# Altium footprint library AD9172+K71.PcbLib: 46 footprints (part 3 of 3)
Each footprint in its own frame and in the unit in brackets; x right, y up, seen from the top. Pads: shape width x height; smd on the part's side, far side on the other; paste and mask are expansions set on the pad; w line width, h text height; cw(c..) or ccw(c..) is an arc to the next point about the centre after c.
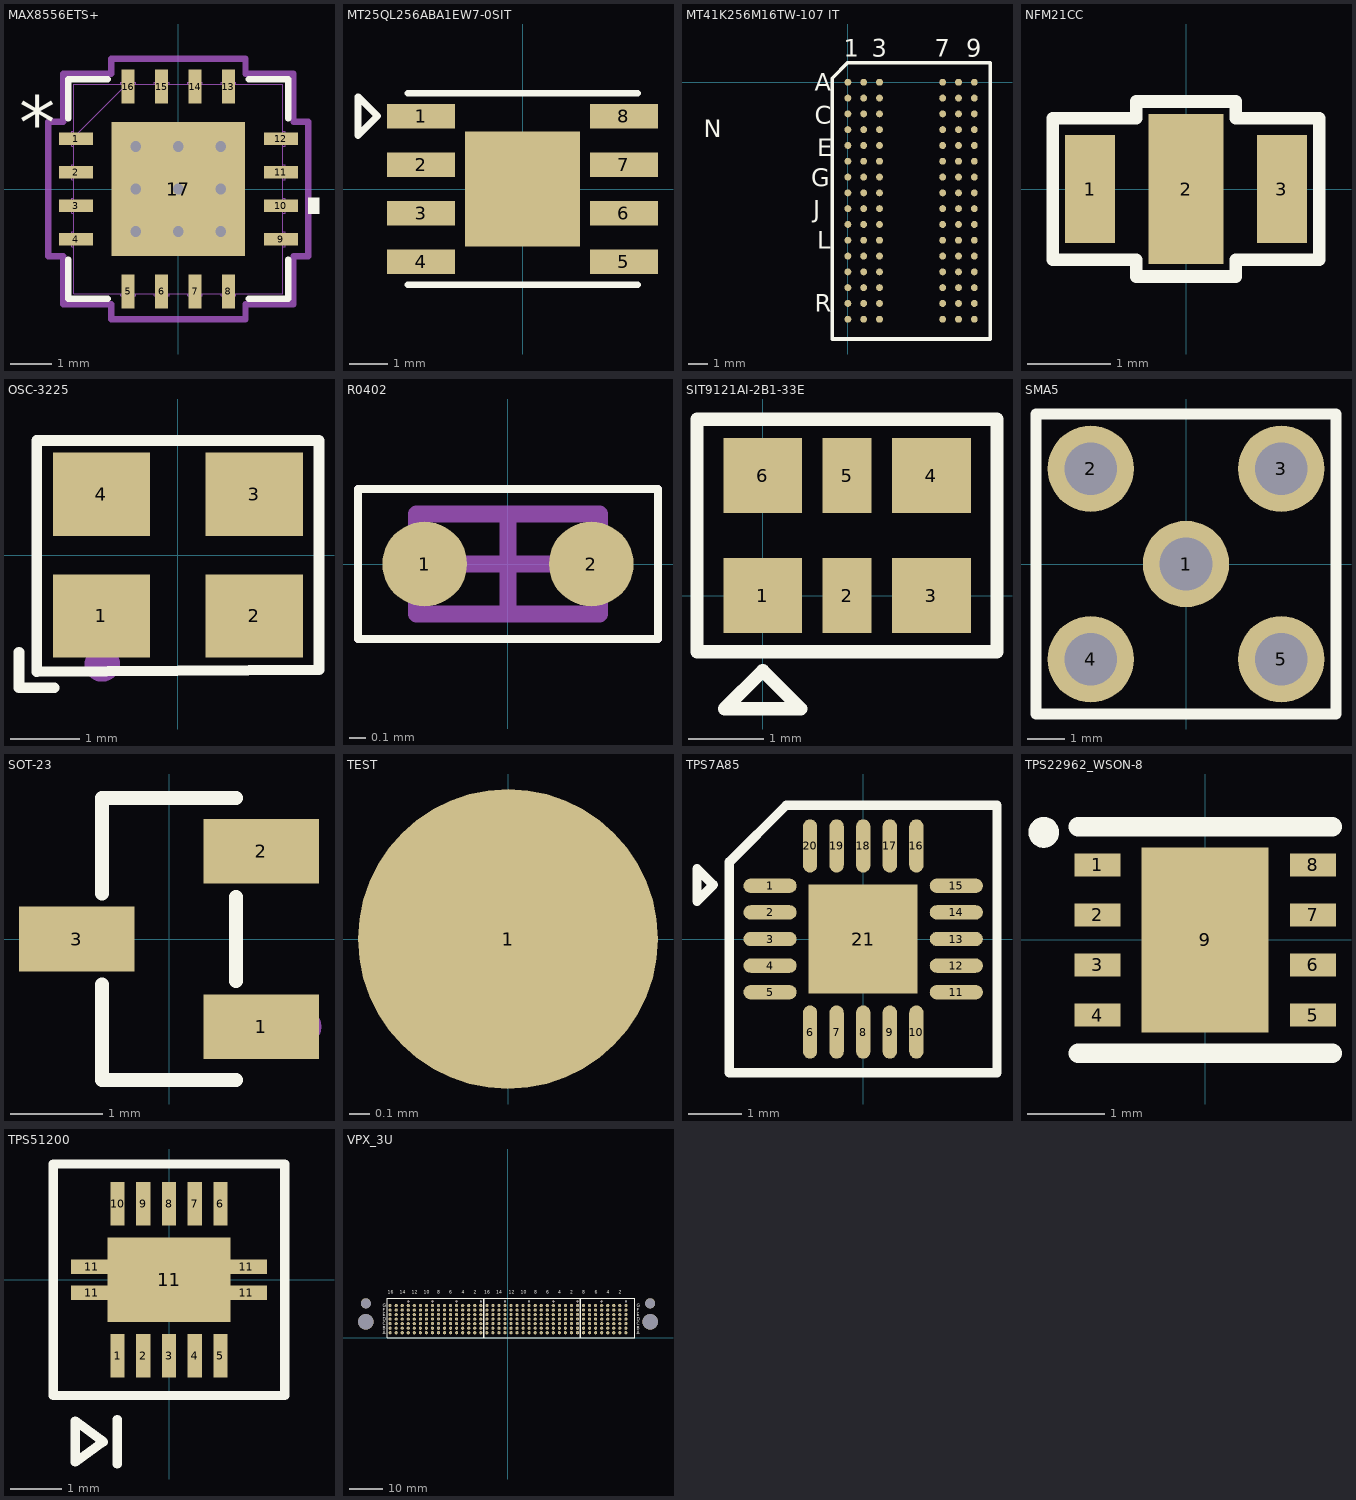
[diagram p2: the footprints below, top view; thin cyan lines are the x and y axes]

## MAX8556ETS+ [mil]
pads (17):
  rect 32x12 smd paste+0 mask+0: 1(-96.5,47.24) 2(-96.5,15.75) 3(-96.5,-15.75) 4(-96.5,-47.24) 9(96.5,-47.24) 10(96.5,-15.75) 11(96.5,15.75) 12(96.5,47.24)
  rect 12x32 smd paste+0 mask+0: 5(-47.24,-96.5) 6(-15.75,-96.5) 7(15.75,-96.5) 8(47.24,-96.5) 13(47.24,96.5) 14(15.75,96.5) 15(-15.75,96.5) 16(-47.24,96.5)
  rect 126x126 smd paste-62.5 mask+0: 17(0,0)
via 0,0 diameter 18 hole 10
via 0,40 diameter 18 hole 10
via 0,-40 diameter 18 hole 10
via -40,0 diameter 18 hole 10
via 40,40 diameter 18 hole 10
via -40,40 diameter 18 hole 10
via -40,-40 diameter 18 hole 10
via 40,-40 diameter 18 hole 10
via 40,0 diameter 18 hole 10
Top Overlay:
  region: 122.5,-8.25 132.5,-8.25 132.5,-23.25 122.5,-23.25
  lines w6: -103.5,-66.34 -103.5,-103.5 -66.34,-103.5 ; -103.5,66.34 -103.5,103.5 -66.34,103.5 ; 66.34,-103.5 103.5,-103.5 103.5,-66.34 ; 66.34,103.5 103.5,103.5 103.5,66.34
  text "*" at -150,37.99 h50
Top Paste:
  region: -3.94,59.06 -59.06,59.06 -59.06,3.94 -3.94,3.94
  region: -3.94,-3.94 -59.06,-3.94 -59.06,-59.06 -3.94,-59.06
  region: 59.06,59.06 3.94,59.06 3.94,3.94 59.06,3.94
  region: 59.06,-3.94 3.94,-3.94 3.94,-59.06 59.06,-59.06
Mechanical 13:
  lines w1: -98.5,48.5 -48.5,98.5 ; -100.5,-54.24 -100.5,-40.24 -98.5,-40.24 -98.5,-54.24 -100.5,-54.24 ; -100.5,-22.75 -100.5,-8.75 -98.5,-8.75 -98.5,-22.75 -100.5,-22.75 ; -100.5,8.75 -100.5,22.75 -98.5,22.75 -98.5,8.75 -100.5,8.75 ; -100.5,40.24 -100.5,54.24 -98.5,54.24 -98.5,40.24 -100.5,40.24 ; -98.5,-98.5 98.5,-98.5 98.5,98.5 -98.5,98.5 -98.5,-98.5 ; -54.24,-100.5 -54.24,-98.5 -40.24,-98.5 -40.24,-100.5 -54.24,-100.5 ; -54.24,98.5 -40.24,98.5 -40.24,100.5 -54.24,100.5 -54.24,98.5 ; -22.75,-100.5 -22.75,-98.5 -8.75,-98.5 -8.75,-100.5 -22.75,-100.5 ; -22.75,98.5 -8.75,98.5 -8.75,100.5 -22.75,100.5 -22.75,98.5 ; 8.75,-100.5 8.75,-98.5 22.75,-98.5 22.75,-100.5 8.75,-100.5 ; 8.75,98.5 22.75,98.5 22.75,100.5 8.75,100.5 8.75,98.5 ; 40.24,-100.5 40.24,-98.5 54.24,-98.5 54.24,-100.5 40.24,-100.5 ; 40.24,98.5 54.24,98.5 54.24,100.5 40.24,100.5 40.24,98.5 ; 98.5,-54.24 98.5,-40.24 100.5,-40.24 100.5,-54.24 98.5,-54.24 ; 98.5,-22.75 98.5,-8.75 100.5,-8.75 100.5,-22.75 98.5,-22.75 ; 98.5,8.75 98.5,22.75 100.5,22.75 100.5,8.75 98.5,8.75 ; 98.5,40.24 98.5,54.24 100.5,54.24 100.5,40.24 98.5,40.24
  text "*" at -93,37.99 h50
Mechanical 15:
  lines w6: -122.5,-63.24 -108.5,-63.24 -108.5,-108.5 -63.24,-108.5 -63.24,-122.5 63.24,-122.5 63.24,-108.5 108.5,-108.5 108.5,-63.24 122.5,-63.24 122.5,63.24 108.5,63.24 108.5,108.5 63.24,108.5 63.24,122.5 -63.24,122.5 -63.24,108.5 -108.5,108.5 -108.5,63.24 -122.5,63.24 -122.5,-63.24
3D body "21-0140_T1655+3_MXM.step": height 32.09, standoff 0, extent -100.51,-100.51 100.51,100.51

## MT25QL256ABA1EW7-0SIT [mm]
pads (9):
  rect 1.778x0.635 smd: 1(-2.65,1.905) 2(-2.65,0.635) 3(-2.65,-0.635) 4(-2.65,-1.905) 5(2.65,-1.905) 6(2.65,-0.635) 7(2.65,0.635) 8(2.65,1.905)
  rect 3x3 smd: ""(0,0)
Top Overlay:
  lines w0.178: -3,-2.5 3,-2.5 ; -3,2.5 3,2.5 ; -4.301,1.397 -3.793,1.905 -4.301,2.413 -4.301,1.397

## MT41K256M16TW-107 IT [mm]
pads (96):
  round 0.35 smd: A1(0,0) A2(0.8,0) A3(1.6,0) A7(4.8,0) A8(5.6,0) A9(6.4,0) B1(0,-0.8) B2(0.8,-0.8) B3(1.6,-0.8) B7(4.8,-0.8) B8(5.6,-0.8) B9(6.4,-0.8) C1(0,-1.6) C2(0.8,-1.6) C3(1.6,-1.6) C7(4.8,-1.6) C8(5.6,-1.6) C9(6.4,-1.6) D1(0,-2.4) D2(0.8,-2.4) D3(1.6,-2.4) D7(4.8,-2.4) D8(5.6,-2.4) D9(6.4,-2.4) E1(0,-3.2) E2(0.8,-3.2) E3(1.6,-3.2) E7(4.8,-3.2) E8(5.6,-3.2) E9(6.4,-3.2) F1(0,-4) F2(0.8,-4) F3(1.6,-4) F7(4.8,-4) F8(5.6,-4) F9(6.4,-4) G1(0,-4.8) G2(0.8,-4.8) G3(1.6,-4.8) G7(4.8,-4.8) G8(5.6,-4.8) G9(6.4,-4.8) H1(0,-5.6) H2(0.8,-5.6) H3(1.6,-5.6) H7(4.8,-5.6) H8(5.6,-5.6) H9(6.4,-5.6) J1(0,-6.4) J2(0.8,-6.4) J3(1.6,-6.4) J7(4.8,-6.4) J8(5.6,-6.4) J9(6.4,-6.4) K1(0,-7.2) K2(0.8,-7.2) K3(1.6,-7.2) K7(4.8,-7.2) K8(5.6,-7.2) K9(6.4,-7.2) L1(0,-8) L2(0.8,-8) L3(1.6,-8) L7(4.8,-8) L8(5.6,-8) L9(6.4,-8) M1(0,-8.8) M2(0.8,-8.8) M3(1.6,-8.8) M7(4.8,-8.8) M8(5.6,-8.8) M9(6.4,-8.8) N1(0,-9.6) N2(0.8,-9.6) N3(1.6,-9.6) N7(4.8,-9.6) N8(5.6,-9.6) N9(6.4,-9.6) P1(0,-10.4) P2(0.8,-10.4) P3(1.6,-10.4) P7(4.8,-10.4) P8(5.6,-10.4) P9(6.4,-10.4) R1(0,-11.2) R2(0.8,-11.2) R3(1.6,-11.2) R7(4.8,-11.2) R8(5.6,-11.2) R9(6.4,-11.2) T1(0,-12) T2(0.8,-12) T3(1.6,-12) T7(4.8,-12) T8(5.6,-12) T9(6.4,-12)
Top Overlay:
  lines w0.178: -0.8,-13 -0.8,0.2 0,1 7.2,1 7.2,-13 -0.8,-13
  text "7" at 4.4,1.302 h0.89
  text "3" at 1.2,1.302 h0.89
  text "C" at -1.685,-2.09 h0.89
  text "E" at -1.558,-3.741 h0.89
  text "G" at -1.854,-5.263 h0.89
  text "J" at -1.748,-6.863 h0.89
  text "L" at -1.558,-8.44 h0.89
  text "N" at -7.29,-2.793 h0.89
  text "R" at -1.685,-11.615 h0.89
  text "A" at -1.685,-0.439 h0.89
  text "9" at 6,1.302 h0.89
  text "1" at -0.204,1.302 h0.89

## NFM21CC [mm] "NFM21CC"
pads (3):
  rect 0.6x1.3 smd: 1(-1.15,0) 3(1.15,0)
  rect 0.9x1.8 smd: 2(0,0)
Top Overlay:
  lines w0.15: -1.6,-0.85 -1.6,0.85 -0.6,0.85 -0.6,1.05 0.6,1.05 0.6,0.85 1.6,0.85 1.6,-0.85 0.6,-0.85 0.6,-1.05 -0.6,-1.05 -0.6,-0.85 -1.6,-0.85
Mechanical 20:
  text "NFM21PC225B0J3" at -0.5,1.53 h0.25

## OSC-3225 [mm]
pads (4):
  rect 1.4x1.2 smd: 1(-1.1,-0.875) 2(1.1,-0.875) 3(1.1,0.875) 4(-1.1,0.875)
Top Overlay:
  lines w0.152: -2.286,-1.397 -2.286,-1.905 -1.778,-1.905 ; -2.029,-1.679 2.032,-1.651 2.032,0 2.032,1.651 -2.029,1.651 -2.029,-1.679
Mechanical 15:
  circle w0.254: c-1.088,-1.567 r0.127
  region: -1.738,-0.536 -1.702,-0.536 -1.702,-0.608 -1.738,-0.608
  region: -1.702,-0.536 -1.666,-0.536 -1.666,-0.608 -1.702,-0.608
  region: -1.666,-0.5 -1.63,-0.5 -1.63,-0.608 -1.666,-0.608
  region: -1.63,-0.464 -1.594,-0.464 -1.594,-0.572 -1.63,-0.572
  region: -1.594,-0.464 -1.558,-0.464 -1.558,-1.004 -1.594,-1.004
  region: -1.558,-0.428 -1.522,-0.428 -1.522,-1.004 -1.558,-1.004
  region: -1.522,-0.428 -1.486,-0.428 -1.486,-1.004 -1.522,-1.004
  region: -1.486,-0.428 -1.45,-0.428 -1.45,-1.004 -1.486,-1.004

## R0402 [mil]
height 11.81
pads (2):
  round 20 smd: 1(-19.68,0) 2(19.68,0)
Top Overlay:
  lines w1.97: -35.43,-17.72 -35.43,17.72 35.43,17.72 35.43,-17.72 -35.43,-17.72
Mechanical 13:
  lines w3.94: -21.65,-11.81 21.65,-11.81 21.65,11.81 -21.65,11.81 -21.65,-11.81
Mechanical 15:
  lines w1.97: -35.43,-17.72 -35.43,17.72 35.43,17.72 35.43,-17.72 -35.43,-17.72
  lines w3.94: -9.84,0 9.84,0 ; 0,-9.84 0,9.84
3D body "R0402.STEP": height 13.78, standoff 0, extent -19.68,-9.84 19.69,9.85

## SIT9121AI-2B1-33E [mm]
pads (6):
  rect 1.05x1 smd: 1(0,0) 3(2.25,0) 4(2.25,1.6) 6(0,1.6)
  rect 0.65x1 smd: 2(1.125,0) 5(1.125,1.6)
Top Overlay:
  lines w0.178: -0.875,-0.75 -0.875,2.35 3.125,2.35 3.125,-0.75 -0.875,-0.75 ; -0.508,-1.508 0,-1 0.508,-1.508 -0.508,-1.508

## SMA5 [mm]
pads (5):
  round 2.3 hole 1.4: 1(0,0) 2(-2.54,2.54) 3(2.54,2.54) 4(-2.54,-2.54) 5(2.54,-2.54)
Top Overlay:
  lines w0.305: -4,-4 -4,4 4,4 4,-4 -4,-4

## SOT-23 [mm]
pads (3):
  rect 1.25x0.7 smd mask+0.051: 1(1,-0.95) 2(1,0.95) 3(-1,0)
Top Overlay:
  lines w0.152: -0.726,-0.495 -0.726,-1.526 0.726,-1.526 ; -0.726,0.495 -0.726,1.526 0.726,1.526 ; 0.726,-0.455 0.726,0.455
Mechanical 6:
  circle w0.2: c1.45,-0.95 r0.1

## TEST [mm]
pads (1):
  round 1.5 smd: 1(0,0)

## TPS7A85 [mm]
pads (21):
  oval 1x0.27 smd: 1(-1.75,1) 2(-1.75,0.5) 3(-1.75,0) 4(-1.75,-0.5) 5(-1.75,-1) 11(1.75,-1) 12(1.75,-0.5) 13(1.75,0) 14(1.75,0.5) 15(1.75,1)
  oval 0.27x1 smd: 6(-1,-1.75) 7(-0.5,-1.75) 8(0,-1.75) 9(0.5,-1.75) 10(1,-1.75) 16(1,1.75) 17(0.5,1.75) 18(0,1.75) 19(-0.5,1.75) 20(-1,1.75)
  rect 2.05x2.05 smd: 21(0,0)
Top Overlay:
  lines w0.178: -3.124,0.711 -2.819,1.016 -3.124,1.321 -3.124,0.711 ; -2.515,-2.515 2.515,-2.515 2.515,2.515 -1.448,2.515 -2.515,1.448 -2.515,-2.515

## TPS22962_WSON-8 [mm]
pads (9):
  rect 0.6x0.3 smd: 1(-1.4,0.975) 2(-1.4,0.325) 3(-1.4,-0.325) 4(-1.4,-0.975) 5(1.4,-0.975) 6(1.4,-0.325) 7(1.4,0.325) 8(1.4,0.975)
  rect 1.65x2.4 smd: 9(0,0)
Top Overlay:
  lines w0.2: -1.999,1.397 cw(c-2.099,1.398) -1.999,1.4
  lines w0.254: -1.651,-1.473 1.649,-1.473 ; -1.649,1.473 1.651,1.473

## TPS51200 [mm]
pads (15):
  rect 0.279x0.85 smd: 1(-1,-1.475) 2(-0.5,-1.475) 3(0,-1.475) 4(0.5,-1.475) 5(1,-1.475) 6(1,1.475) 7(0.5,1.475) 8(0,1.475) 9(-0.5,1.475) 10(-1,1.475)
  rect 0.8x0.28 smd: 11(-1.5,-0.25) 11(-1.5,0.25) 11(1.5,-0.25) 11(1.5,0.25)
  rect 2.4x1.65 smd: 11(0,0)
Top Overlay:
  lines w0.178: -1.007,-3.58 -1.007,-2.717 ; -2.25,-2.25 -2.25,2.25 2.25,2.25 2.25,-2.25 -2.25,-2.25 ; -1.821,-3.543 -1.821,-2.743 -1.275,-3.151 -1.821,-3.543

## VPX_3U [mm]
pads (294):
  round 0.95 hole 0.45: P0_A1(35.1,1.5) P0_A2(33.3,1.5) P0_A3(31.5,1.5) P0_A4(29.7,1.5) P0_A5(27.9,1.5) P0_A6(26.1,1.5) P0_A7(24.3,1.5) P0_A8(22.5,1.5) P0_B1(35.1,2.85) P0_B2(33.3,2.85) P0_B3(31.5,2.85) P0_B4(29.7,2.85) P0_B5(27.9,2.85) P0_B6(26.1,2.85) P0_B7(24.3,2.85) P0_B8(22.5,2.85) P0_C1(35.1,4.2) P0_C2(33.3,4.2) P0_C3(31.5,4.2) P0_C4(29.7,4.2) P0_C5(27.9,4.2) P0_C6(26.1,4.2) P0_C7(24.3,4.2) P0_C8(22.5,4.2) P0_D1(35.1,5.55) P0_D2(33.3,5.55) P0_D3(31.5,5.55) P0_D4(29.7,5.55) P0_D5(27.9,5.55) P0_D6(26.1,5.55) P0_D7(24.3,5.55) P0_D8(22.5,5.55) P0_E1(35.1,6.9) P0_E2(33.3,6.9) P0_E3(31.5,6.9) P0_E4(29.7,6.9) P0_E5(27.9,6.9) P0_E6(26.1,6.9) P0_E7(24.3,6.9) P0_E8(22.5,6.9) P0_F1(35.1,8.25) P0_F2(33.3,8.25) P0_F3(31.5,8.25) P0_F4(29.7,8.25) P0_F5(27.9,8.25) P0_F6(26.1,8.25) P0_F7(24.3,8.25) P0_F8(22.5,8.25) P0_G1(35.1,9.6) P0_G2(33.3,9.6) P0_G3(31.5,9.6) P0_G4(29.7,9.6) P0_G5(27.9,9.6) P0_G6(26.1,9.6) P0_G7(24.3,9.6) P0_G8(22.5,9.6) P1_A1(20.7,1.5) P1_A2(18.9,1.5) P1_A3(17.1,1.5) P1_A4(15.3,1.5) P1_A5(13.5,1.5) P1_A6(11.7,1.5) P1_A7(9.9,1.5) P1_A8(8.1,1.5) P1_A9(6.3,1.5) P1_A10(4.5,1.5) P1_A11(2.7,1.5) P1_A12(0.9,1.5) P1_A13(-0.9,1.5) P1_A14(-2.7,1.5) P1_A15(-4.5,1.5) P1_A16(-6.3,1.5) P1_B1(20.7,2.85) P1_B2(18.9,2.85) P1_B3(17.1,2.85) P1_B4(15.3,2.85) P1_B5(13.5,2.85) P1_B6(11.7,2.85) P1_B7(9.9,2.85) P1_B8(8.1,2.85) P1_B9(6.3,2.85) P1_B10(4.5,2.85) P1_B11(2.7,2.85) P1_B12(0.9,2.85) P1_B13(-0.9,2.85) P1_B14(-2.7,2.85) P1_B15(-4.5,2.85) P1_B16(-6.3,2.85) P1_C1(20.7,4.2) P1_C2(18.9,4.2) P1_C3(17.1,4.2) P1_C4(15.3,4.2) P1_C5(13.5,4.2) P1_C6(11.7,4.2) P1_C7(9.9,4.2) P1_C8(8.1,4.2) P1_C9(6.3,4.2) P1_C10(4.5,4.2) P1_C11(2.7,4.2) P1_C12(0.9,4.2) P1_C13(-0.9,4.2) P1_C14(-2.7,4.2) P1_C15(-4.5,4.2) P1_C16(-6.3,4.2) P1_D1(20.7,5.55) P1_D2(18.9,5.55) P1_D3(17.1,5.55) P1_D4(15.3,5.55) P1_D5(13.5,5.55) P1_D6(11.7,5.55) P1_D7(9.9,5.55) P1_D8(8.1,5.55) P1_D9(6.3,5.55) P1_D10(4.5,5.55) P1_D11(2.7,5.55) P1_D12(0.9,5.55) P1_D13(-0.9,5.55) P1_D14(-2.7,5.55) P1_D15(-4.5,5.55) P1_D16(-6.3,5.55) P1_E1(20.7,6.9) P1_E2(18.9,6.9) P1_E3(17.1,6.9) P1_E4(15.3,6.9) P1_E5(13.5,6.9) P1_E6(11.7,6.9) P1_E7(9.9,6.9) P1_E8(8.1,6.9) P1_E9(6.3,6.9) P1_E10(4.5,6.9) P1_E11(2.7,6.9) P1_E12(0.9,6.9) P1_E13(-0.9,6.9) P1_E14(-2.7,6.9) P1_E15(-4.5,6.9) P1_E16(-6.3,6.9) P1_F1(20.7,8.25) P1_F2(18.9,8.25) P1_F3(17.1,8.25) P1_F4(15.3,8.25) P1_F5(13.5,8.25) P1_F6(11.7,8.25) P1_F7(9.9,8.25) P1_F8(8.1,8.25) P1_F9(6.3,8.25) P1_F10(4.5,8.25) P1_F11(2.7,8.25) P1_F12(0.9,8.25) P1_F13(-0.9,8.25) P1_F14(-2.7,8.25) P1_F15(-4.5,8.25) P1_F16(-6.3,8.25) P1_G1(20.7,9.6) P1_G2(18.9,9.6) P1_G3(17.1,9.6) P1_G4(15.3,9.6) P1_G5(13.5,9.6) P1_G6(11.7,9.6) P1_G7(9.9,9.6) P1_G8(8.1,9.6) P1_G9(6.3,9.6) P1_G10(4.5,9.6) P1_G11(2.7,9.6) P1_G12(0.9,9.6) P1_G13(-0.9,9.6) P1_G14(-2.7,9.6) P1_G15(-4.5,9.6) P1_G16(-6.3,9.6) P2_A1(-8.1,1.5) P2_A2(-9.9,1.5) P2_A3(-11.7,1.5) P2_A4(-13.5,1.5) P2_A5(-15.3,1.5) P2_A6(-17.1,1.5) P2_A7(-18.9,1.5) P2_A8(-20.7,1.5) P2_A9(-22.5,1.5) P2_A10(-24.3,1.5) P2_A11(-26.1,1.5) P2_A12(-27.9,1.5) P2_A13(-29.7,1.5) P2_A14(-31.5,1.5) P2_A15(-33.3,1.5) P2_A16(-35.1,1.5) P2_B1(-8.1,2.85) P2_B2(-9.9,2.85) P2_B3(-11.7,2.85) P2_B4(-13.5,2.85) P2_B5(-15.3,2.85) P2_B6(-17.1,2.85) P2_B7(-18.9,2.85) P2_B8(-20.7,2.85) P2_B9(-22.5,2.85) P2_B10(-24.3,2.85) P2_B11(-26.1,2.85) P2_B12(-27.9,2.85) P2_B13(-29.7,2.85) P2_B14(-31.5,2.85) P2_B15(-33.3,2.85) P2_B16(-35.1,2.85) P2_C1(-8.1,4.2) P2_C2(-9.9,4.2) P2_C3(-11.7,4.2) P2_C4(-13.5,4.2) P2_C5(-15.3,4.2) P2_C6(-17.1,4.2) P2_C7(-18.9,4.2) P2_C8(-20.7,4.2) P2_C9(-22.5,4.2) P2_C10(-24.3,4.2) P2_C11(-26.1,4.2) P2_C12(-27.9,4.2) P2_C13(-29.7,4.2) P2_C14(-31.5,4.2) P2_C15(-33.3,4.2) P2_C16(-35.1,4.2) P2_D1(-8.1,5.55) P2_D2(-9.9,5.55) P2_D3(-11.7,5.55) P2_D4(-13.5,5.55) P2_D5(-15.3,5.55) P2_D6(-17.1,5.55) P2_D7(-18.9,5.55) P2_D8(-20.7,5.55) P2_D9(-22.5,5.55) P2_D10(-24.3,5.55) P2_D11(-26.1,5.55) P2_D12(-27.9,5.55) P2_D13(-29.7,5.55) P2_D14(-31.5,5.55) P2_D15(-33.3,5.55) P2_D16(-35.1,5.55) P2_E1(-8.1,6.9) P2_E2(-9.9,6.9) P2_E3(-11.7,6.9) P2_E4(-13.5,6.9) P2_E5(-15.3,6.9) P2_E6(-17.1,6.9) P2_E7(-18.9,6.9) P2_E8(-20.7,6.9) P2_E9(-22.5,6.9) P2_E10(-24.3,6.9) P2_E11(-26.1,6.9) P2_E12(-27.9,6.9) P2_E13(-29.7,6.9) P2_E14(-31.5,6.9) P2_E15(-33.3,6.9) P2_E16(-35.1,6.9) P2_F1(-8.1,8.25) P2_F2(-9.9,8.25) P2_F3(-11.7,8.25) P2_F4(-13.5,8.25) P2_F5(-15.3,8.25) P2_F6(-17.1,8.25) P2_F7(-18.9,8.25) P2_F8(-20.7,8.25) P2_F9(-22.5,8.25) P2_F10(-24.3,8.25) P2_F11(-26.1,8.25) P2_F12(-27.9,8.25) P2_F13(-29.7,8.25) P2_F14(-31.5,8.25) P2_F15(-33.3,8.25) P2_F16(-35.1,8.25) P2_G1(-8.1,9.6) P2_G2(-9.9,9.6) P2_G3(-11.7,9.6) P2_G4(-13.5,9.6) P2_G5(-15.3,9.6) P2_G6(-17.1,9.6) P2_G7(-18.9,9.6) P2_G8(-20.7,9.6) P2_G9(-22.5,9.6) P2_G10(-24.3,9.6) P2_G11(-26.1,9.6) P2_G12(-27.9,9.6) P2_G13(-29.7,9.6) P2_G14(-31.5,9.6) P2_G15(-33.3,9.6) P2_G16(-35.1,9.6)
  round 4.65 hole 4.65: ""(-42.35,4.75) ""(42.35,4.75)
  round 3 hole 3: ""(-42.35,10.25) ""(42.35,10.25)
  round 0.6 hole 0.6: ""(-29.7,10.85) ""(-22.5,10.85) ""(-15.3,10.85) ""(-8.1,10.85) ""(-0.9,10.85) ""(6.3,10.85) ""(13.5,10.85) ""(20.7,10.85) ""(27.9,10.85) ""(35.1,10.85)
Top Overlay:
  lines w0.254: -35.94,0 -35.94,11.81 -7.26,11.81 -7.26,0 -35.94,0 ; -7.14,0 -7.14,11.81 21.54,11.81 21.54,0 -7.14,0 ; 21.66,0 21.66,11.81 37.74,11.81 37.74,0 21.66,0
  text "F" at -37.233,7.75 h1
  text "E" at -37.233,6.4 h1
  text "D" at -37.233,5.05 h1
  text "C" at -37.233,3.7 h1
  text "G" at -37.233,9.1 h1
  text "A" at -37.233,1 h1
  text "B" at -37.233,2.35 h1
  text "F" at 38.367,7.75 h1
  text "E" at 38.367,6.4 h1
  text "D" at 38.367,5.05 h1
  text "C" at 38.367,3.7 h1
  text "G" at 38.367,9.1 h1
  text "A" at 38.367,1 h1
  text "B" at 38.367,2.35 h1
  text "6" at 25.767,13.15 h1
  text "8" at 22.167,13.15 h1
  text "4" at 29.367,13.15 h1
  text "2" at 32.967,13.15 h1
  text "14" at -3.45,13.15 h1
  text "16" at -7.05,13.15 h1
  text "12" at 0.15,13.15 h1
  text "10" at 3.75,13.15 h1
  text "2" at 18.567,13.15 h1
  text "4" at 14.967,13.15 h1
  text "8" at 7.767,13.15 h1
  text "6" at 11.367,13.15 h1
  text "14" at -32.25,13.15 h1
  text "16" at -35.85,13.15 h1
  text "12" at -28.65,13.15 h1
  text "10" at -25.05,13.15 h1
  text "2" at -10.233,13.15 h1
  text "4" at -13.833,13.15 h1
  text "8" at -21.033,13.15 h1
  text "6" at -17.433,13.15 h1
Bottom Overlay:
  text "F" at -36.567,7.75 h1
  text "E" at -36.567,6.4 h1
  text "D" at -36.567,5.05 h1
  text "C" at -36.567,3.7 h1
  text "G" at -36.567,9.1 h1
  text "A" at -36.567,1 h1
  text "B" at -36.567,2.35 h1
  text "6" at 26.433,13.15 h1
  text "8" at 22.833,13.15 h1
  text "4" at 30.033,13.15 h1
  text "2" at 33.633,13.15 h1
  text "F" at 39.033,7.75 h1
  text "E" at 39.033,6.4 h1
  text "D" at 39.033,5.05 h1
  text "C" at 39.033,3.7 h1
  text "G" at 39.033,9.1 h1
  text "A" at 39.033,1 h1
  text "B" at 39.033,2.35 h1
  text "2" at 19.233,13.15 h1
  text "4" at 15.633,13.15 h1
  text "8" at 8.433,13.15 h1
  text "6" at 12.033,13.15 h1
  text "10" at 5.25,13.15 h1
  text "12" at 1.65,13.15 h1
  text "14" at -1.95,13.15 h1
  text "16" at -5.55,13.15 h1
  text "2" at -9.567,13.15 h1
  text "4" at -13.167,13.15 h1
  text "8" at -20.367,13.15 h1
  text "6" at -16.767,13.15 h1
  text "10" at -23.55,13.15 h1
  text "12" at -27.15,13.15 h1
  text "14" at -30.75,13.15 h1
  text "16" at -34.35,13.15 h1